# Altium schematic symbol library Power Reg$.SchLib: 80 symbols
Pins are listed as number, name and electrical type; pins without a type are passive.

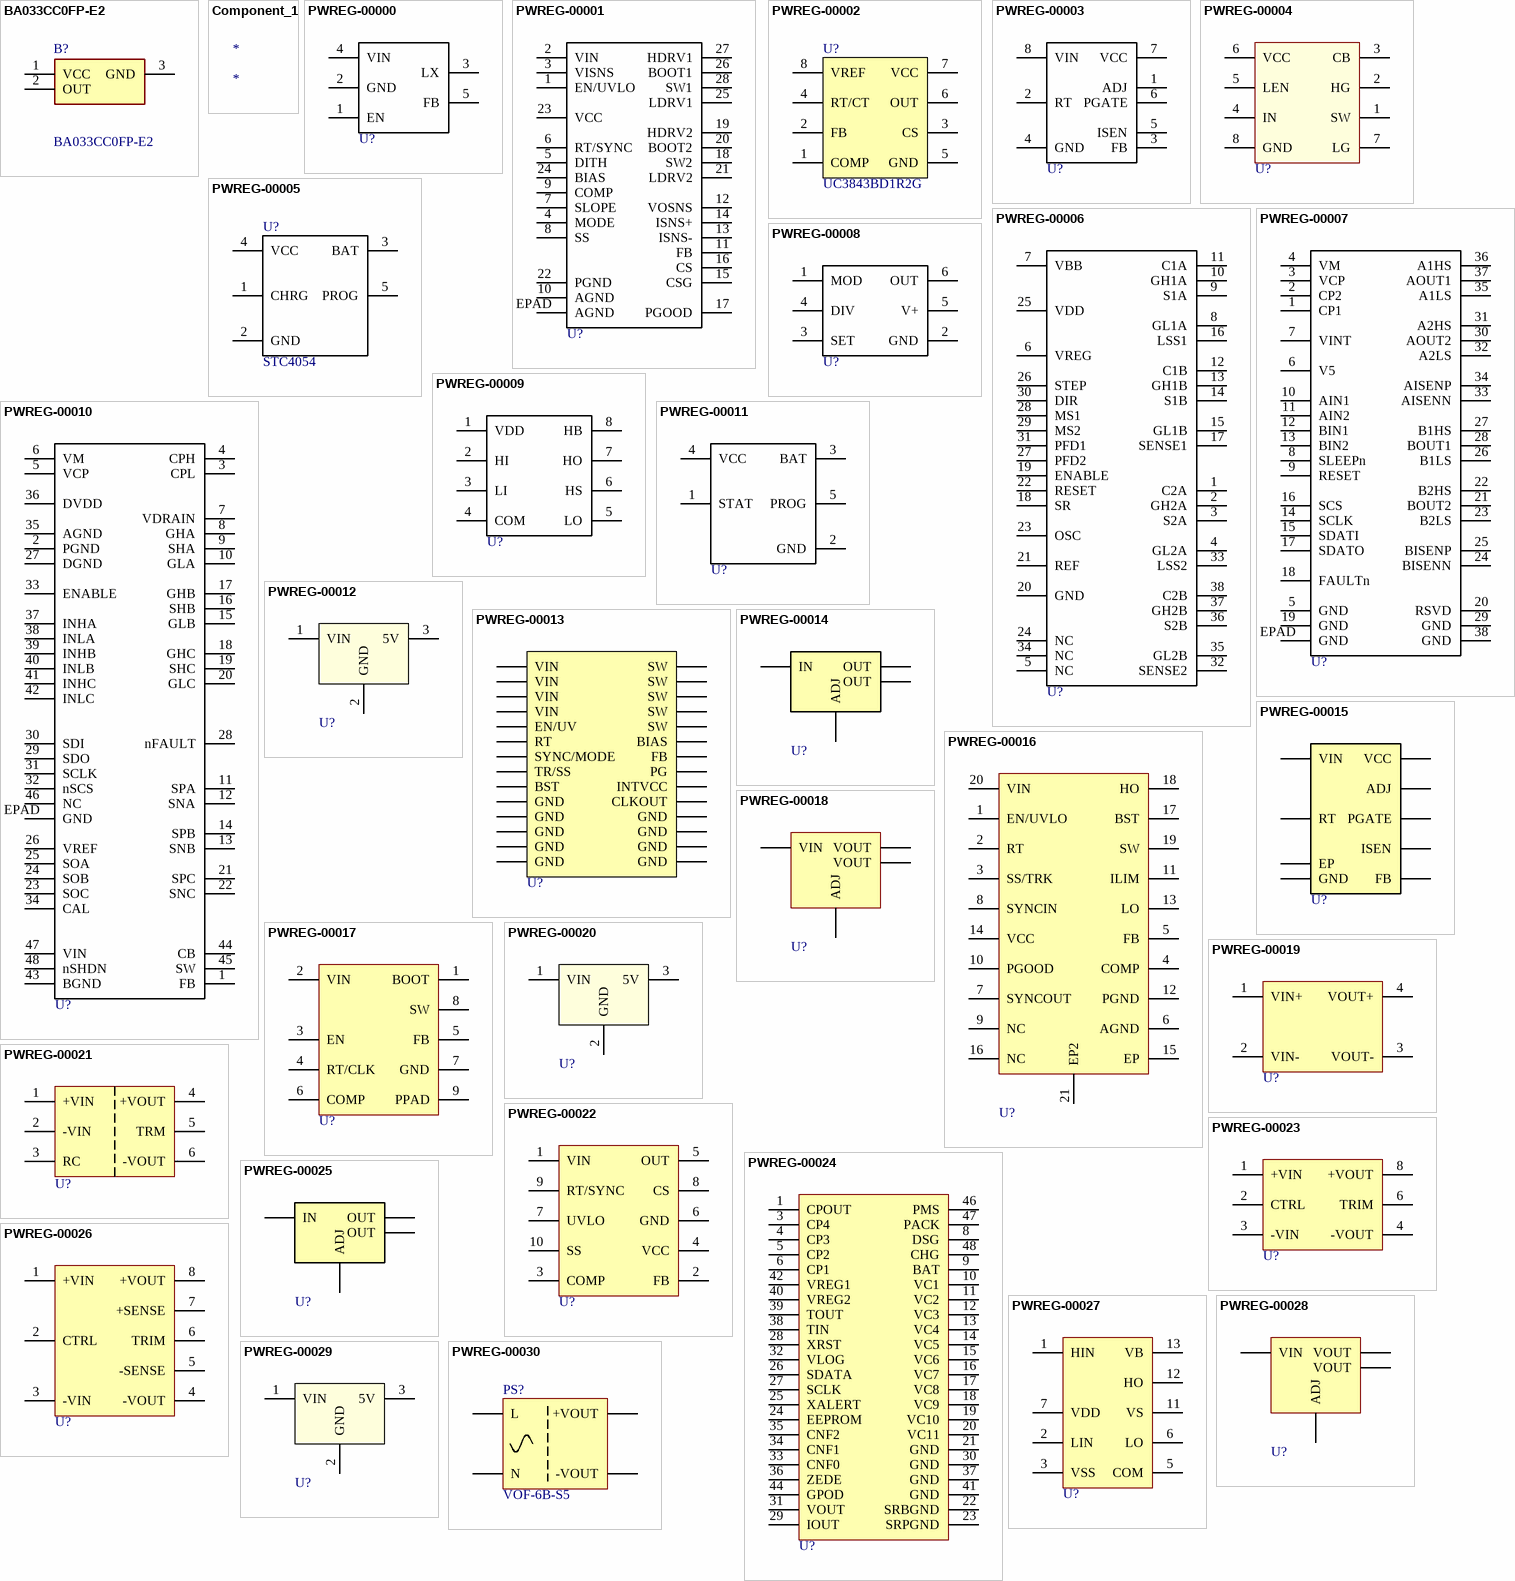
[diagram p0: symbols BA033CC0FP-E2 to PWREG-00030]

## BA033CC0FP-E2
designator B?
LDO regulator,3.3V,1A,TO252; Manufacturer_Name: ROHM Semiconductor; Manufacturer_Part_Number: BA033CC0FP-E2; Mouser Part Number: 755-BA033CC0FP-E2; Mouser Price/Stock: https://www.mouser.co.uk/ProductDetail/ROHM-Semiconductor/BA033CC0FP-E2?qs=4kLU8WoGk0vZtk7EcED04A%3D%3D; Arrow Part Number: BA033CC0FP-E2; Arrow Price/Stock: https://www.arrow.com/en/products/ba033cc0fp-e2/rohm-semiconductor?region=nac; Mouser Testing Part Number: *; Mouser Testing Price/Stock: *; Datasheet Link: http://rohmfs.rohm.com/en/products/databook/datasheet/ic/power/linear_regulator/baxxdd0-e.pdf
footprint ROHM_TO-252-3
pins: 1 VCC, 2 OUT, 3 GND

## Component_1
designator *

## PWREG-00000
designator U?, comment AP3428DN  (value not drawn)
REG, SW Buck Adj, 1A, 1.5MHz; Part Number: PWREG-00000; Manufacturer: Diodes Inc.; Manufacturer PN: AP3428; Voltage Range In: 2.5 - 5.5V; Voltage Range Out: 0.6 - 5.5V; Reg Type: SW Buck; Max Current: 1A; Frequency: 1.5MHz; Fixed/Adj: Adj
footprint sot-25
pins: 1 EN, 2 GND, 3 LX, 4 VIN, 5 FB

## PWREG-00001
designator U?, comment LM5175  (value not drawn)
REG CNTRL, SW Bck/Bst Adj,  LM5175; Part Number: PWREG-00001; Manufacturer: TI; Voltage Range In: 3.5 - 42V; Voltage Range Out: 0.8 - 55V; Frequency: 100-600kHz; Reg Type: SW Buck/Boost Controller; Fixed/Adj: Adj; Manufacturer PN: LM5175
footprint tssop-28_0
pins: 1 EN/UVLO, 2 VIN, 3 VISNS, 4 MODE, 5 DITH, 6 RT/SYNC, 7 SLOPE, 8 SS, 9 COMP, 10 AGND, 11 FB, 12 VOSNS, 13 ISNS-, 14 ISNS+, 15 CSG, 16 CS, 17 PGOOD, 18 SW2, 19 HDRV2, 20 BOOT2, 21 LDRV2, 22 PGND, 23 VCC, 24 BIAS, 25 LDRV1, 26 BOOT1, 27 HDRV1, 28 SW1, EPAD AGND

## PWREG-00002
designator U?, comment UC3843BD1R2G
REG, SW Flyback Adj, UC3843B; Part Number: PWREG-00002; Manufacturer: ON Semi; Voltage Range In: 30V; Reg Type: SW Flyback; Fixed/Adj: Adj; Manufacturer PN: UC3843BD1R2G
footprint so-8
pins: 1 COMP, 2 FB, 3 CS, 4 RT/CT, 5 GND, 6 OUT, 7 VCC, 8 VREF

## PWREG-00003
designator U?, comment LM25085  (value not drawn)
REG CNTRL, SW Buck Adj,  LM25085; Part Number: PWREG-00003; Manufacturer: TI; Manufacturer PN: LM25085MY; Voltage Range In: 4.5 - 42V; Frequency: Up to1MHz; Reg Type: SW Buck; Fixed/Adj: Adj
footprint MSPOP-8-PAD_0
pins: 1 ADJ, 2 RT, 3 FB, 4 GND, 5 ISEN, 6 PGATE, 7 VCC, 8 VIN

## PWREG-00004
designator U?, comment LM27222  (value not drawn)
Gate Driver, 5A, Half-Bridge, 4-6.85V, LM27222; Part Number: PWREG-00004; Manufacturer: TI; Voltage Range In: 4 - 6.85V; Max Current: 5A; Reg Type: Gate Driver; Manufacturer PN: LM27222
footprint so-8
pins: 1 SW, 2 HG, 3 CB, 4 IN, 5 LEN, 6 VCC, 7 LG, 8 GND

## PWREG-00005
designator U?, comment STC4054
Batt Charger, Li-Ion 800mA, TSOT23-5L, STC4054; Part Number: PWREG-00005; Manufacturer: ST; Voltage Range In: 4.25 - 6.5V; Voltage Range Out: 4.2V; Max Current: 0.8A; Reg Type: Batt Chgr; Fixed/Adj: Fixed; Manufacturer PN: STC4054
footprint sot-23-5
pins: 1 CHRG, 2 GND, 3 BAT, 4 VCC, 5 PROG

## PWREG-00006
designator U?, comment A4989  (value not drawn)
Stepper Driver, A4989; Part Number: PWREG-00006; Manufacturer: Allegro; Voltage Range In: 12 - 40V; Reg Type: Stepper Driver; Manufacturer PN: A4989
footprint tssop-38_0
pins: 1 C2A, 2 GH2A, 3 S2A, 4 GL2A, 5 NC, 6 VREG, 7 VBB, 8 GL1A, 9 S1A, 10 GH1A, 11 C1A, 12 C1B, 13 GH1B, 14 S1B, 15 GL1B, 16 LSS1, 17 SENSE1, 18 SR, 19 ENABLE, 20 GND, 21 REF, 22 RESET, 23 OSC, 24 NC, 25 VDD, 26 STEP, 27 PFD2, 28 MS1, 29 MS2, 30 DIR, 31 PFD1, 32 SENSE2, 33 LSS2, 34 NC, 35 GL2B, 36 S2B, 37 GH2B, 38 C2B

## PWREG-00007
designator U?, comment DRV8704  (value not drawn)
Dual BDC Driver, DRV8704; Part Number: PWREG-00007; Manufacturer: TI; Voltage Range In: 8 - 52V; Max Current: 200 mA; Reg Type: BDC Driver; Manufacturer PN: DRV8704
footprint tssop-38_1
pins: 1 CP1, 2 CP2, 3 VCP, 4 VM, 5 GND, 6 V5, 7 VINT, 8 SLEEPn, 9 RESET, 10 AIN1, 11 AIN2, 12 BIN1, 13 BIN2, 14 SCLK, 15 SDATI, 16 SCS, 17 SDATO, 18 FAULTn, 19 GND, 20 RSVD, 21 BOUT2, 22 B2HS, 23 B2LS, 24 BISENN, 25 BISENP, 26 B1LS, 27 B1HS, 28 BOUT1, 29 GND, 30 AOUT2, 31 A2HS, 32 A2LS, 33 AISENN, 34 AISENP, 35 A1LS, 36 A1HS, 37 AOUT1, 38 GND, EPAD GND

## PWREG-00008
designator U?, comment LTC6992  (value not drawn)
PWM Mod, Analog, LTC6992; Part Number: PWREG-00008; Manufacturer: Linear; Manufacturer PN: LTC6992
footprint sot-23-6
pins: 1 MOD, 2 GND, 3 SET, 4 DIV, 5 V+, 6 OUT

## PWREG-00009
designator U?, comment UCC27710  (value not drawn)
Half Bridge Driver, 0.5A, 620V, UCC27710, SO-8; Part Number: PWREG-00009; Manufacturer: TI; Voltage Range In: 10-22V; Max Current: 500mA; Reg Type: Gate Driver; Manufacturer PN: UCC27710
footprint so-8
pins: 1 VDD, 2 HI, 3 LI, 4 COM, 5 LO, 6 HS, 7 HO, 8 HB

## PWREG-00010
designator U?, comment DRV8323RS  (value not drawn)
BLDC Gate Driver, DRV 8323RS; Part Number: PWREG-00010; Manufacturer: TI; Voltage Range In: 6 - 60V; Max Current: 1A; Reg Type: BLDC Driver; Manufacturer PN: DRV8323RS
footprint VQFN-48
pins: 1 FB, 2 PGND, 3 CPL, 4 CPH, 5 VCP, 6 VM, 7 VDRAIN, 8 GHA, 9 SHA, 10 GLA, 11 SPA, 12 SNA, 13 SNB, 14 SPB, 15 GLB, 16 SHB, 17 GHB, 18 GHC, 19 SHC, 20 GLC, 21 SPC, 22 SNC, 23 SOC, 24 SOB, 25 SOA, 26 VREF, 27 DGND, 28 nFAULT, 29 SDO, 30 SDI, 31 SCLK, 32 nSCS, 33 ENABLE, 34 CAL, 35 AGND, 36 DVDD, 37 INHA, 38 INLA, 39 INHB, 40 INLB, 41 INHC, 42 INLC, 43 BGND, 44 CB, 45 SW, 46 NC, 47 VIN, 48 nSHDN, EPAD GND

## PWREG-00011
designator U?, comment MCP73831  (value not drawn)
Single Cell Li-Ion Batt Charger, MCP73831, SOT-23-5; Part Number: PWREG-00011; Manufacturer: Microchip; Voltage Range In: 3.75 - 6V; Max Current: 500mA; Reg Type: Batt Chgr; Manufacturer PN: MCP73831
footprint sot-23-5
pins: 1 STAT, 2 GND, 3 BAT, 4 VCC, 5 PROG

## PWREG-00012
designator U?, comment LM340  (value not drawn)
REG, Linear, Fixed 5V, 1.5A; Part Number: PWREG-00012; Manufacturer: TI; Manufacturer PN: LM340MP-5.0/NOPBCT-ND; Voltage Range In: 7 - 35V; Voltage Range Out: 5V; Max Current: 1.5A; Reg Type: Linear; Fixed/Adj: Fixed
footprint sot-223-4
pins: 1 VIN, 2 GND, 3 5V

## PWREG-00013
designator U?, comment LT8640S  (value not drawn)
SW Reg, Silent Switcher 2, Low EMI; Part Number: PWREG-00013; Manufacturer: Analog Devices; Manufacturer PN: LT8640SEV#PBF; Voltage Range In: 3 - 42V; Voltage Range Out: 0.97 - 42V; Max Current: 6A; Frequency: 200kHz-3MHz; Reg Type: SW Buck; Fixed/Adj: Adj; Cost: 11.15
footprint LQFN-24_0
pins: 1 BIAS, 2 INTVCC, 3 GND, 3 GND, 4 GND, 5 VIN, 6 VIN, 7 BST, 8 SW, 9 SW, 10 SW, 11 SW, 12 SW, 13 VIN, 14 VIN, 15 GND, 16 GND, 17 EN/UV, 18 RT, 19 CLKOUT, 20 SYNC/MODE, 21 TR/SS, 23 PG, 24 FB, 25 GND, 26 GND, 27 GND, 28 GND

## PWREG-00014
designator U?, comment LM317  (value not drawn)
REG, Linear, Adj, 1.5A; Part Number: PWREG-00014; Manufacturer: TI; Manufacturer PN: LM317KTTR; Voltage Range In: 4.25 - 40V; Voltage Range Out: 1.25 - 37V; Fixed/Adj: Adf; Max Current: 1.5A; Reg Type: Linear; Cost: 0.84
footprint D2PAK-4_0
pins: 1 ADJ, 2 OUT, 3 IN, 4 OUT

## PWREG-00015
designator U?, comment LM5085  (value not drawn)
REG CNTRL, SW Buck, LM5085; Part Number: PWREG-00015; Manufacturer: TI; Manufacturer PN: LM5085MY/NOPB; Voltage Range In: 4.5 - 75V; Reg Type: SW Buck; Fixed/Adj: Adj; Cost: 2.27
footprint MSPOP-8-PAD_0
pins: 1 ADJ, 2 RT, 3 FB, 4 GND, 5 ISEN, 6 PGATE, 7 VCC, 8 VIN, 9 EP

## PWREG-00016
designator U?, comment LM5145  (value not drawn)
REG CNTRL, SW Buck, LM5145; Part Number: PWREG-00016; Manufacturer: TI; Manufacturer PN: LM5145RGY; Voltage Range In: 6 - 75V; Voltage Range Out: 0.8 - 60V; Frequency: 100kHz-1MHz; Reg Type: SW Buck; Fixed/Adj: Adj; Cost: 6.35
footprint VQFN-20_0
pins: 1 EN/UVLO, 2 RT, 3 SS/TRK, 4 COMP, 5 FB, 6 AGND, 7 SYNCOUT, 8 SYNCIN, 9 NC, 10 PGOOD, 11 ILIM, 12 PGND, 13 LO, 14 VCC, 15 EP, 16 NC, 17 BST, 18 HO, 19 SW, 20 VIN, 21 EP2

## PWREG-00017
designator U?, comment TPS54360  (value not drawn)
REG, SW Buck Adj, 3.5A, 4.5-60V, 2.5MHz; Part Number: PWREG-00017; Manufacturer: TI; Manufacturer PN: TPS54360DDAR; Voltage Range Out: 0.8 - 58.8V; Max Current: 4.5A; Frequency: 100kHz-2.5MHz; Reg Type: SW Buck; Voltage Range In: 4.5 - 60V; Fixed/Adj: Adj; Cost: 5.11
footprint SO-8_PPAD
pins: 1 BOOT, 2 VIN, 3 EN, 4 RT/CLK, 5 FB, 6 COMP, 7 GND, 8 SW, 9 PPAD

## PWREG-00018
designator U?, comment LM1117  (value not drawn)
REG, Linear, Fixed 3V3, 800mA, SOT-223; Part Number: PWREG-00018; Manufacturer: TI; Manufacturer PN: LM1117MPX-3.3/NOPB; Voltage Range In: 4.5 - 15V; Voltage Range Out: 3.3V; Max Current: 800mA; Reg Type: Linear; Fixed/Adj: Fixed; Cost: 1.14
footprint sot-223-4
pins: 1 ADJ, 2 VOUT, 3 VIN, 4 VOUT

## PWREG-00019
designator U?, comment POWER_MODULE  (value not drawn)
Module, Isolated, 15V, 200mA; Part Number: PWREG-00019; Manufacturer: MEAN WELL; Manufacturer PN: SPU03M-15; Voltage Range In: 10.8 - 13.2V; Fixed/Adj: Fixed; Voltage Range Out: 15V; Max Current: 200mA; Cost: 6.85
footprint SPU03
pins: 1 VIN+, 2 VIN-, 3 VOUT-, 4 VOUT+

## PWREG-00020
designator U?, comment LM340  (value not drawn)
REG, Linear, Fixed 5V, TO-220; Part Number: PWREG-00020; Manufacturer: TI; Manufacturer PN: LM340AT-5.0; Voltage Range In: 7 - 35V; Max Current: 1.5A; Voltage Range Out: 5V; Reg Type: Linear; Fixed/Adj: Fixed
footprint TO-220_0
pins: 1 VIN, 2 GND, 3 5V

## PWREG-00021
designator U?, comment CCG15  (value not drawn)
Module, Isolated, 5V, 3A; Part Number: PWREG-00021; Manufacturer: TDK-Lambda; Manufacturer PN: CCG152405S; Voltage Range In: 9 - 36V; Fixed/Adj: Fixed; Voltage Range Out: 5V; Max Current: 3A; Weight: 20
footprint CCG15
pins: 1 +VIN, 2 -VIN, 3 RC, 4 +VOUT (power), 5 TRM, 6 -VOUT (power)

## PWREG-00022
designator U?, comment LM5022  (value not drawn)
REG, SW Boost Adj, 1A, 6-60V, 2.2MHz; Part Number: PWREG-00022; Manufacturer: TI; Manufacturer PN: LM5022MM/NOPB; Frequency: up to 2.2MHz; Voltage Range In: 6 - 60V; Max Current: 1A; Reg Type: SW Boost; Fixed/Adj: Adj; Cost: 2.65
footprint VSSOP-10_0
pins: 1 VIN, 2 FB, 3 COMP, 4 VCC, 5 OUT, 6 GND, 7 UVLO, 8 CS, 9 RT/SYNC, 10 SS

## PWREG-00023
designator U?, comment eighth_brick_module_6  (value not drawn)
Module, Isolated, Eighth-Brick, 12V, 10A, Negative Logic; Part Number: PWREG-00023; Manufacturer: Murata; Manufacturer PN: UWE-12/10-Q48NB-C; Voltage Range In: 18 - 75V; Reg Type: Isolated Module; Fixed/Adj: Fixed; Voltage Range Out: 12V; Max Current: 10A; Cost: 46; Weight: 20
footprint EIGHTH_BRICK_6_0
pins: 1 +VIN, 2 CTRL, 3 -VIN, 4 -VOUT, 6 TRIM, 8 +VOUT

## PWREG-00024
designator U?, comment BQ77PL900  (value not drawn)
Batt Manager, Li-Ion, 5-10 cells, bq77PL900; Part Number: PWREG-00024; Manufacturer: TI; Manufacturer PN: BQ77PL900DLR; Voltage Range In: -0.3 - 60V; Reg Type: Batt Mngr; Fixed/Adj: Fixed; Cost: 6.36
footprint SSOP-48_0
pins: 1 CPOUT, 2 NC hidden, 3 CP4, 4 CP3, 5 CP2, 6 CP1, 7 NC hidden, 8 DSG, 9 BAT, 10 VC1, 11 VC2, 12 VC3, 13 VC4, 14 VC5, 15 VC6, 16 VC7, 17 VC8, 18 VC9, 19 VC10, 20 VC11, 21 GND, 22 SRBGND, 23 SRPGND, 24 EEPROM, 25 XALERT, 26 SDATA, 27 SCLK, 28 XRST, 29 IOUT, 30 GND, 31 VOUT, 32 VLOG, 33 CNF0, 34 CNF1, 35 CNF2, 36 ZEDE, 37 GND, 38 TIN, 39 TOUT, 40 VREG2, 41 GND, 42 VREG1, 43 NC hidden, 44 GPOD, 45 NC hidden, 46 PMS, 47 PACK, 48 CHG

## PWREG-00025
designator U?, comment LM317  (value not drawn)
REG, Linear, Adj, 500mA, SOT-223; Part Number: PWREG-00025; Manufacturer: ON Semi; Manufacturer PN: LM317MSTT3G; Voltage Range In: 40V; Voltage Range Out: 1.2-37V; Max Current: 500mA; Reg Type: Linear; Fixed/Adj: Adj; Cost: 0.59
footprint sot-223-4
pins: 1 ADJ, 2 OUT, 3 IN, 4 OUT

## PWREG-00026
designator U?, comment eighth_brick_module_8  (value not drawn)
Module, Isolated, Eighth-Brick, 12V, 10A, Positive Logic; Part Number: PWREG-00026; Manufacturer: Murata; Manufacturer PN: UWE-12/10-Q48PB-C; Voltage Range In: 18 - 75V; Reg Type: Isolated Module; Fixed/Adj: Fixed; Voltage Range Out: 12V; Max Current: 10A; Cost: 47; Weight: 20
footprint EIGHTH_BRICK_8_0
pins: 1 +VIN, 2 CTRL, 3 -VIN, 4 -VOUT, 5 -SENSE, 6 TRIM, 7 +SENSE, 8 +VOUT

## PWREG-00027
designator U?, comment FAN7391  (value not drawn)
Half Bridge Driver, 4.5A, 600V, FAN7391, SO-14; Part Number: PWREG-00027; Manufacturer: ON Semi; Manufacturer PN: FAN7391MXCT-ND; Voltage Range In: 10 - 20V; Reg Type: Gate Driver; Max Current: 4.5A; Cost: 1.98
footprint so-14
pins: 1 HIN, 2 LIN, 3 VSS, 4 NC hidden, 5 COM, 6 LO, 7 VDD, 8 NC hidden, 9 NC hidden, 10 NC hidden, 11 VS, 12 HO, 13 VB, 14 NC hidden

## PWREG-00028
designator U?, comment LM1117  (value not drawn)
REG, Linear, Fixed 5V, 800mA, SOT-223, LM1117-5.0; Part Number: PWREG-00028; Manufacturer: TI; Manufacturer PN: LM1117MPX-5.0/NOPB; Voltage Range In: 6.2 - 20V; Voltage Range Out: 5V; Max Current: 800mA; Reg Type: Linear; Fixed/Adj: Fixed; Cost: 1.14
footprint sot-223-4
pins: 1 ADJ, 2 VOUT, 3 VIN, 4 VOUT

## PWREG-00029
designator U?, comment LM340  (value not drawn)
REG, Linear, Fixed 5V, 1A, TO-220; Part Number: PWREG-00029; Manufacturer: TI; Manufacturer PN: LM7805CT/NOPB; Voltage Range In: 7 - 35V; Voltage Range Out: 5V; Max Current: 1A; Reg Type: Linear; Fixed/Adj: Fixed; Cost: 1.54
footprint TO-220_0
pins: 1 VIN, 2 GND, 3 5V

## PWREG-00030
designator PS?, comment VOF-6B-S5
REG, SW AC/DC Converter Module, Fixed 5V, 1.2A; Part Number: PWREG-00030; Manufacturer: CUI; Voltage Range In: 85 - 264VAC; Frequency: 70kHz; Reg Type: Isolated Module; Voltage Range Out: 5V; Max Current: 1.2A; Fixed/Adj: Fixed; Manufacturer PN: VOF-6B-S5; Cost: 8.8
footprint VOF-6B
pins: 1 N, 2 L, 3 +VOUT, 4 -VOUT

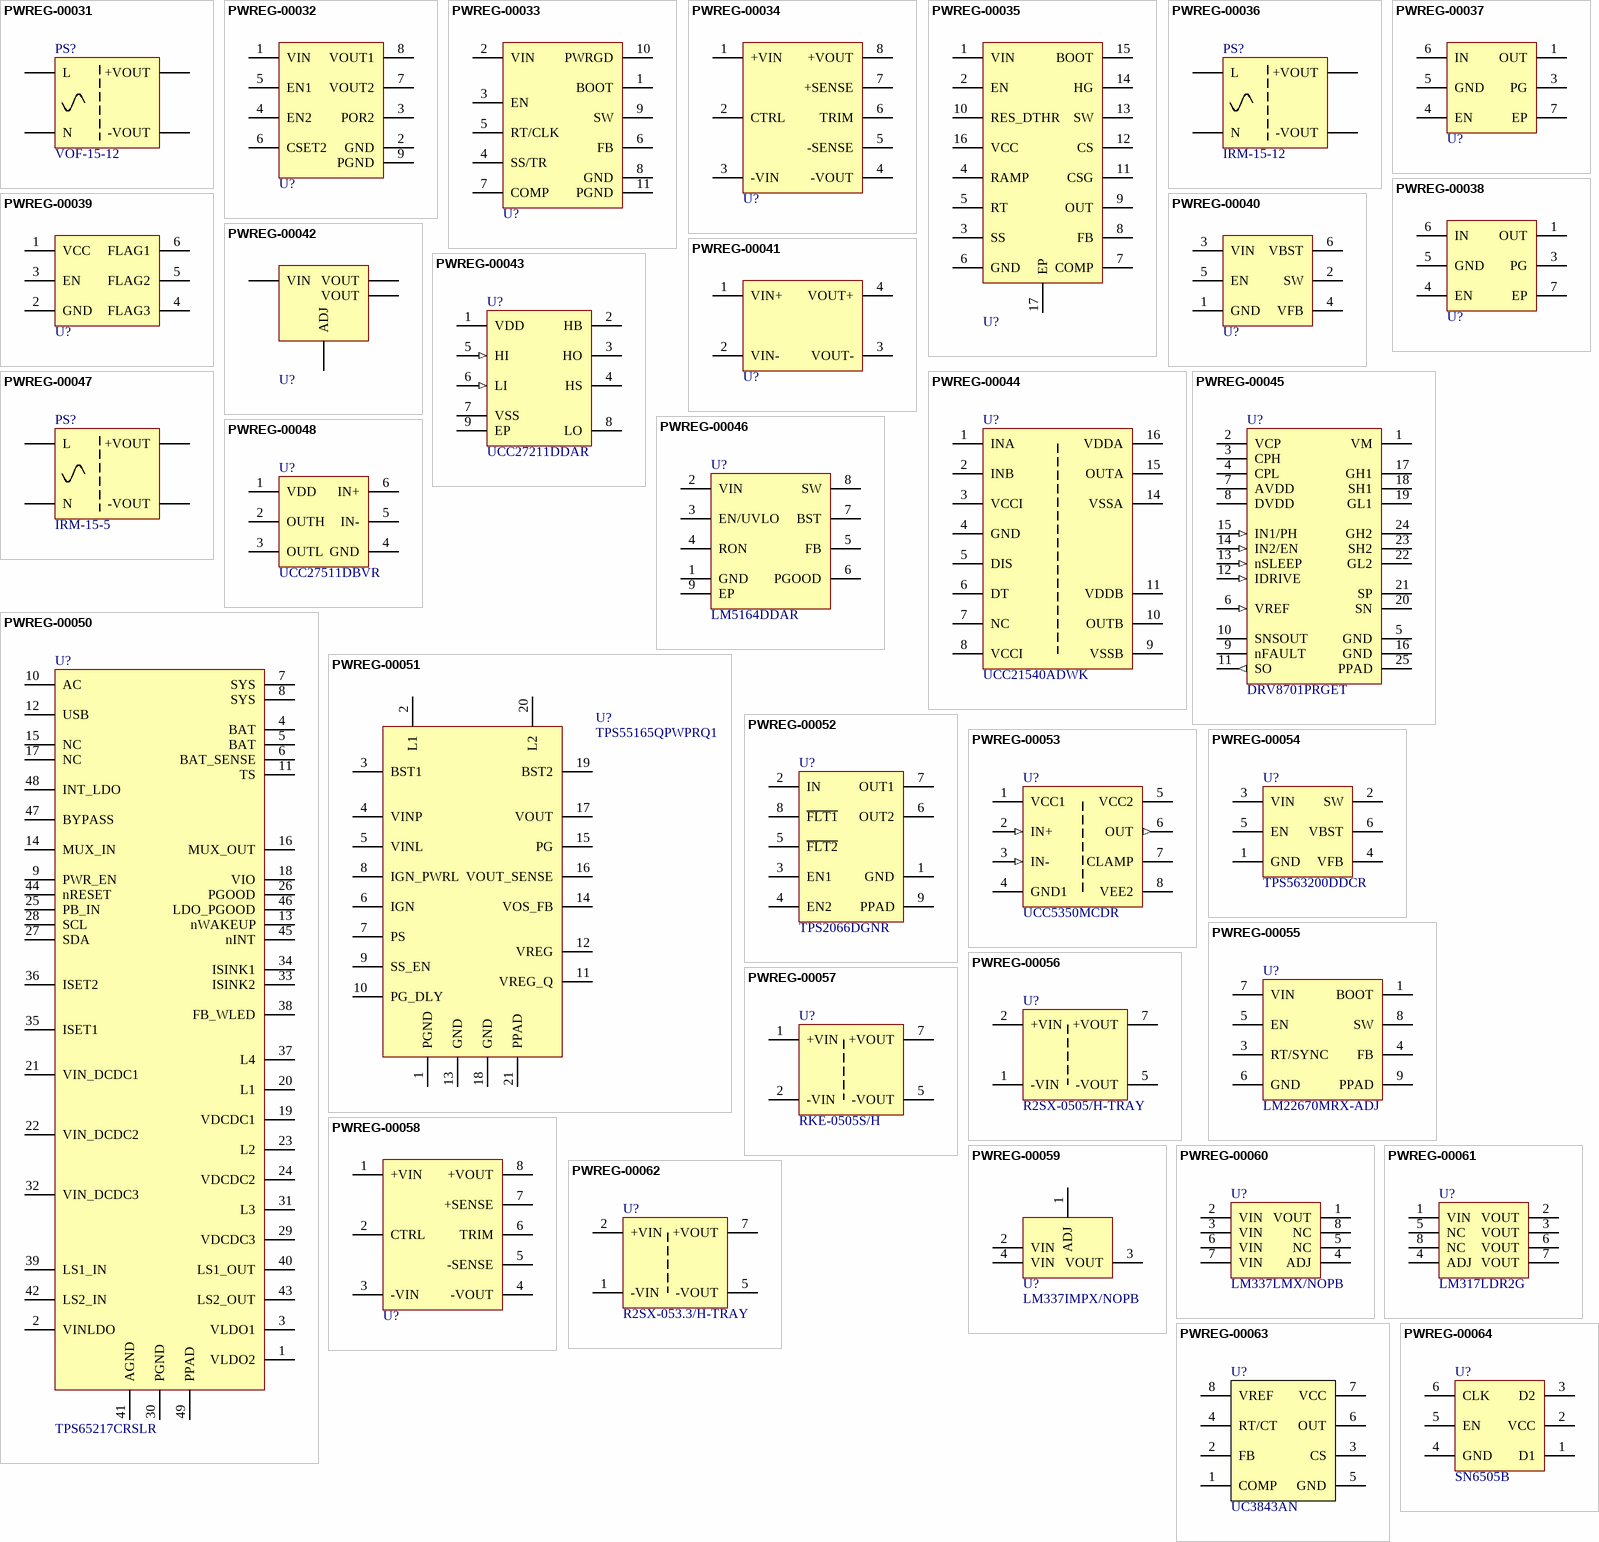
[diagram p1: symbols PWREG-00031 to PWREG-00064]

## PWREG-00031
designator PS?, comment VOF-15-12
REG, SW AC/DC Converter Module, Fixed 12V, 1.25A; Part Number: PWREG-00031; Manufacturer: CUI; Voltage Range In: 86 - 264VAC; Reg Type: Isolated Module; Voltage Range Out: 12V; Max Current: 1.25A; Fixed/Adj: Fixed; Manufacturer PN: VOF-15-12; Cost: 19.41
footprint VOF-15-12
pins: 1 N, 2 L, 3 +VOUT, 4 -VOUT

## PWREG-00032
designator U?, comment MIC5332  (value not drawn)
REG, Linear, Dual 3.3V, 300mA; Part Number: PWREG-00032; Manufacturer: Microchip; Manufacturer PN: MIC5332-SSYMT; Voltage Range In: 2.3V-6V; Fixed/Adj: Fixed; Voltage Range Out: 3.3V; Max Current: 300mA; Reg Type: Linear; Cost: 0.95
footprint UFDFN-8
pins: 1 VIN, 2 GND, 3 POR2, 4 EN2, 5 EN1, 6 CSET2, 7 VOUT2, 8 VOUT1, 9 PGND

## PWREG-00033
designator U?, comment TPS54561  (value not drawn)
REG, SW Buck Adj, 5A, 4.5-60V, 2.5MHz, TPS54561; Part Number: PWREG-00033; Manufacturer: TI; Manufacturer PN: TPS54561DPRR; Voltage Range Out: 0.8-58.8V; Frequency: 100kHz-2.5MHz; Reg Type: SW Buck; Voltage Range In: 4.5-60V; Max Current: 5A; Fixed/Adj: Adj; Cost: 5.52
footprint WSON-10_0
pins: 1 BOOT, 2 VIN, 3 EN, 4 SS/TR, 5 RT/CLK, 6 FB, 7 COMP, 8 GND, 9 SW, 10 PWRGD, 11 PGND

## PWREG-00034
designator U?, comment power_brick_module_8  (value not drawn)
Module, Isolated DC-DC Conv, Quarter-Brick, 12V, 225W; Part Number: PWREG-00034; Manufacturer: ABB; Manufacturer PN: QHHD019A0B41Z; Voltage Range In: 18-75V; Max Current: 19A; Reg Type: Isolated Module; Fixed/Adj: Fixed; Voltage Range Out: 12V; Cost: 51.11
footprint QUARTER_BRICK_8_0
pins: 1 +VIN, 2 CTRL, 3 -VIN, 4 -VOUT, 5 -SENSE, 6 TRIM, 7 +SENSE, 8 +VOUT

## PWREG-00035
designator U?, comment LM5088  (value not drawn)
REG CNTRL, SW Buck, LM5088; Part Number: PWREG-00035; Manufacturer: TI; Manufacturer PN: LM5088MHX-2; Voltage Range In: 4.5-75V; Frequency: 50kHz-1MHz; Reg Type: SW Buck; Fixed/Adj: Adj; Cost: 3.53
footprint HTSSOP-16_0
pins: 1 VIN, 2 EN, 3 SS, 4 RAMP, 5 RT, 6 GND, 7 COMP, 8 FB, 9 OUT, 10 RES_DTHR, 11 CSG, 12 CS, 13 SW, 14 HG, 15 BOOT, 16 VCC, 17 EP

## PWREG-00036
designator PS?, comment IRM-15-12
Module, AC-DC Isolated, 12V 1.25A; Part Number: PWREG-00036; Manufacturer: MEAN WELL; Voltage Range In: 85~305VAC; Reg Type: Isolated Module; Fixed/Adj: Fixed; Voltage Range Out: 12V; Max Current: 1.25A; Manufacturer PN: IRM-15-12; Cost: 10.85
footprint MEANWELL_IRM-15
pins: 1 N, 2 L, 3 +VOUT, 4 -VOUT

## PWREG-00037
designator U?, comment LP5912  (value not drawn)
REG, Linear, Fixed 3.3V, 500mA, Low-Noise with Enable Pin; Part Number: PWREG-00037; Manufacturer: TI; Manufacturer PN: LP5912-3.3DRVR; Voltage Range In: 3.5 - 6.5V; Voltage Range Out: 3.3V; Max Current: 500mA; Reg Type: Linear; Fixed/Adj: Fixed; Cost: 1.2
footprint WSON-6_0
pins: 1 OUT, 2 NC hidden, 3 PG, 4 EN, 5 GND, 6 IN, 7 EP

## PWREG-00038
designator U?, comment LP5912  (value not drawn)
REG, Linear, Fixed 1.8V, 500mA, Low-Noise with Enable Pin; Part Number: PWREG-00038; Manufacturer: TI; Manufacturer PN: LP5912-1.8DRVR; Voltage Range In: 2.0 - 6.5V; Voltage Range Out: 1.8V; Max Current: 500mA; Reg Type: Linear; Fixed/Adj: Fixed; Cost: 1.2
footprint WSON-6_0
pins: 1 OUT, 2 NC hidden, 3 PG, 4 EN, 5 GND, 6 IN, 7 EP

## PWREG-00039
designator U?, comment LM3880  (value not drawn)
IC, Three-Rail Power Supply Sequencer, LM3880; Part Number: PWREG-00039; Manufacturer: TI; Manufacturer PN: LM3880MF-1AE/NOPB; Voltage Range In: 2.7 - 5.5V; Cost: 1.35
footprint sot-23-6
pins: 1 VCC, 2 GND, 3 EN, 4 FLAG3, 5 FLAG2, 6 FLAG1

## PWREG-00040
designator U?, comment TPS56220x  (value not drawn)
REG, Synchronous Buck, 2A, 4.5-17V Input, SOT-23-6, TPS562201; Part Number: PWREG-00040; Manufacturer: TI; Manufacturer PN: TPS562201DDCR; Voltage Range Out: 0.76 - 7V; Frequency: 580kHz; Reg Type: SW Buck; Fixed/Adj: Adj; Voltage Range In: 4.5 - 17V; Max Current: 2A; Cost: 0.68
footprint sot-23-6
pins: 1 GND, 2 SW, 3 VIN, 4 VFB, 5 EN, 6 VBST

## PWREG-00041
designator U?, comment POWER_MODULE  (value not drawn)
Module, Isoltaed DC-DC, 12V 250mA; Part Number: PWREG-00041; Manufacturer: MEAN WELL; Manufacturer PN: SPU03M-12; Voltage Range In: 10.8 - 13.2V; Reg Type: Isolated Module; Fixed/Adj: Fixed; Voltage Range Out: 12V; Max Current: 250mA; Cost: 6.91
footprint SPU03
pins: 1 VIN+, 2 VIN-, 3 VOUT-, 4 VOUT+

## PWREG-00042
designator U?, comment LM1117  (value not drawn)
REG, Linear, Fixed 1.8V, 800mA, LM1117-1.8, SOT-223; Part Number: PWREG-00042; Manufacturer: TI; Manufacturer PN: LM1117MPX-1.8/NOPB; Voltage Range In: 3 - 15V; Voltage Range Out: 1.8V; Max Current: 800mA; Reg Type: LInear; Fixed/Adj: Fixed; Cost: 1.14
footprint sot-223-4
pins: 1 ADJ, 2 VOUT, 3 VIN, 4 VOUT

## PWREG-00043
designator U?, comment UCC27211DDAR
Gate Driver, 4A, Half-Bridge, 7.2ns Rise, 120V DC Max Bootstrap; Part Number: PWREG-00043; Manufacturer: TI; Voltage Range In: 8 - 17V; Max Current: 4A; Reg Type: Gate Driver; Manufacturer PN: UCC27211DDAR; Cost: 3.6
footprint SO-8_PPAD
pins: 1 VDD (power), 2 HB, 3 HO, 4 HS, 5 HI (in), 6 LI (in), 7 VSS (power), 8 LO, 9 EP (power)

## PWREG-00044
designator U?, comment UCC21540ADWK
Gate Driver, Isolated, Dual-Channel, 4A/6A Source/Sink, 5ns Rise-Time; Part Number: PWREG-00044; Manufacturer: TI; Max Current: 6A; Reg Type: Gate Driver; Manufacturer PN: UCC21540ADWK; Cost: 6.37
footprint SOW-14-DWK
pins: 1 INA, 2 INB, 3 VCCI (power), 4 GND (power), 5 DIS, 6 DT, 7 NC, 8 VCCI (power), 9 VSSB (power), 10 OUTB (power), 11 VDDB (power), 14 VSSA (power), 15 OUTA (power), 16 VDDA (power)

## PWREG-00045
designator U?, comment DRV8701PRGET
Dual Half-Bridge Driver, PWM, 5.9-45V, DRV8701P; Part Number: PWREG-00045; Manufacturer: TI; Voltage Range In: 5.9 - 45V; Reg Type: Bridge Driver; Manufacturer PN: DRV8701PRGET; Cost: 2.37
footprint VQFN-24-EP
pins: 1 VM (power), 2 VCP, 3 CPH, 4 CPL, 5 GND (power), 6 VREF (in), 7 AVDD (power), 8 DVDD (power), 9 nFAULT (oc), 10 SNSOUT (oc), 11 SO (out), 12 IDRIVE (in), 13 nSLEEP (in), 14 IN2/EN (in), 15 IN1/PH (in), 16 GND (power), 17 GH1, 18 SH1, 19 GL1, 20 SN, 21 SP, 22 GL2, 23 SH2, 24 GH2, 25 PPAD (power)

## PWREG-00046
designator U?, comment LM5164DDAR
REG, Sychronous Buck Adj, 1A, 6-100V, LM5164; Part Number: PWREG-00046; Manufacturer: TI; Voltage Range Out: 1.2 - 100V; Reg Type: SW Buck; Voltage Range In: 6 - 100V; Max Current: 1A; Fixed/Adj: Adj; Manufacturer PN: LM5164DDAR; Cost: 3.57
footprint SO-8_PPAD
pins: 1 GND (power), 2 VIN (power), 3 EN/UVLO, 4 RON, 5 FB, 6 PGOOD, 7 BST, 8 SW, 9 EP (power)

## PWREG-00047
designator PS?, comment IRM-15-5
Module, AC-DC Isolated, 5V 3A, MEAN WELL; Part Number: PWREG-00047; Voltage Range In: 85~305VAC; Reg Type: Isolated Module; Fixed/Adj: Fixed; Voltage Range Out: 5V; Max Current: 3A; Manufacturer: MEAN WELL; Manufacturer PN: IRM-15-5; Cost: 10.22
footprint MEANWELL_IRM-15
pins: 1 N, 2 L, 3 +VOUT, 4 -VOUT

## PWREG-00048
designator U?, comment UCC27511DBVR
Gate Driver, Single Channel, High-Speed, Low-Side, 4A/8A src/sink; Part Number: PWREG-00048; Manufacturer: TI; Voltage Range In: 18V; Voltage Range Out: 18V; Max Current: 4A/8A; Reg Type: Gate Driver; Manufacturer PN: UCC27511DBVR; Cost: 1.16
footprint sot-23-6
pins: 1 VDD, 2 OUTH, 3 OUTL, 4 GND, 5 IN-, 6 IN+

## PWREG-00050
designator U?, comment TPS65217CRSLR
IC, Single-Chip PMIC for Sitara AM335x; Part Number: PWREG-00050; Manufacturer: TI; Manufacturer PN: TPS65217CRSLR; Cost: 5.4
footprint VQFN-48-TPS65217
pins: 1 VLDO2, 2 VINLDO, 3 VLDO1, 4 BAT, 5 BAT, 6 BAT_SENSE, 7 SYS, 8 SYS, 9 PWR_EN, 10 AC, 11 TS, 12 USB, 13 nWAKEUP, 14 MUX_IN, 15 NC, 16 MUX_OUT, 17 NC, 18 VIO, 19 VDCDC1, 20 L1, 21 VIN_DCDC1, 22 VIN_DCDC2, 23 L2, 24 VDCDC2, 25 PB_IN, 26 PGOOD, 27 SDA, 28 SCL, 29 VDCDC3, 30 PGND, 31 L3, 32 VIN_DCDC3, 33 ISINK2, 34 ISINK1, 35 ISET1, 36 ISET2, 37 L4, 38 FB_WLED, 39 LS1_IN, 40 LS1_OUT, 41 AGND, 42 LS2_IN, 43 LS2_OUT, 44 nRESET, 45 nINT, 46 LDO_PGOOD, 47 BYPASS, 48 INT_LDO, 49 PPAD

## PWREG-00051
designator U?, comment TPS55165QPWPRQ1
REG, 36V, 1A Output, Single Inductor, Synchronous Buck-Boost; Part Number: PWREG-00051; Manufacturer: TI; Voltage Range In: 2 - 36V; Voltage Range Out: 5V or 12V; Reg Type: SW Buck-Boost; Fixed/Adj: Fixed; Max Current: 1A; Manufacturer PN: TPS55165QPWPRQ1; Cost: 4.55
footprint HTSSOP-20_0
pins: 1 PGND, 2 L1, 3 BST1, 4 VINP, 5 VINL, 6 IGN, 7 PS, 8 IGN_PWRL, 9 SS_EN, 10 PG_DLY, 11 VREG_Q, 12 VREG, 13 GND, 14 VOS_FB, 15 PG, 16 VOUT_SENSE, 17 VOUT, 18 GND, 19 BST2, 20 L2, 21 PPAD

## PWREG-00052
designator U?, comment TPS2066DGNR
IC, Power Switch 1:2, 8-MSOP; Part Number: PWREG-00052; Manufacturer: TI; Voltage Range In: 2.7 ~ 5.5V; Max Current: 1A; Voltage Range Out: 2.7 ~ 5.5V; Reg Type: Power Switch; Manufacturer PN: TPS2066DGNR; Cost: 1.56; Distributor Link: https://www.digikey.com/en/products/detail/texas-instruments/TPS2066DGNR/684822
footprint VSSOP-8-PPAD
pins: 1 GND, 2 IN, 3 EN1, 4 EN2, 5 ~{FLT2}, 6 OUT2, 7 OUT1, 8 ~{FLT1}, 9 PPAD

## PWREG-00053
designator U?, comment UCC5350MCDR
Gate Driver, Isolated 3kV, 1-Ch, 5A/5A Src/Sink, SOIC-8; Part Number: PWREG-00053; Manufacturer: TI; Max Current: 5A; Reg Type: Gate Driver; Manufacturer PN: UCC5350MCDR; Cost: 1.92
footprint SO-8_1
pins: 1 VCC1 (power), 2 IN+ (in), 3 IN- (in), 4 GND1 (power), 5 VCC2 (power), 6 OUT (out), 7 CLAMP, 8 VEE2

## PWREG-00054
designator U?, comment TPS563200DDCR
REG, Synchronous Buck, 3A, 4.5-17V Input, SOT-23-6, TPS563200; Part Number: PWREG-00054; Manufacturer: TI; Voltage Range In: 4.5 ~ 17V; Voltage Range Out: 0.76 ~ 7V; Reg Type: SW Buck; Max Current: 3A; Manufacturer PN: TPS563200DDCR; Cost: 0.89
footprint sot-23-6
pins: 1 GND, 2 SW, 3 VIN, 4 VFB, 5 EN, 6 VBST

## PWREG-00055
designator U?, comment LM22670MRX-ADJ
REG, Buck, 3A, 4.5~42V Input, Simple Switcher, SOIC-8-EP; Part Number: PWREG-00055; Manufacturer: TI; Voltage Range In: 4.7 ~ 42V; Voltage Range Out: 1.285 ~ 37V; Reg Type: SW Buck; Fixed/Adj: Adj; Max Current: 3A; Manufacturer PN: LM22670MRX-ADJ; Cost: 4.31
footprint SO-8_PPAD
pins: 1 BOOT, 2 NC hidden, 3 RT/SYNC, 4 FB, 5 EN, 6 GND, 7 VIN, 8 SW, 9 PPAD

## PWREG-00056
designator U?, comment R2SX-0505/H-TRAY
Module, DC-DC Isolated, 5V 2W 3kV, Recom Econoline; Part Number: PWREG-00056; Voltage Range In: 4.5 ~ 5.5V; Max Current: 400mA; Reg Type: Isolated Module; Fixed/Adj: Fixed; Voltage Range Out: 5V; Manufacturer: Recom; Manufacturer PN: R2SX-0505/H-TRAY; Cost: 5.71
footprint RECOM_R2SX
pins: 1 -VIN, 2 +VIN, 4 NC hidden, 5 -VOUT, 7 +VOUT, 10 NC hidden

## PWREG-00057
designator U?, comment RKE-0505S/H
Module, DC-DC Isolated, 5V 1W 4kV, Recom Econoline; Part Number: PWREG-00057; Voltage Range In: 4.5 ~ 5.5V; Max Current: 200mA; Reg Type: Isolated Module; Fixed/Adj: Fixed; Voltage Range Out: 5V; Manufacturer: Recom; Manufacturer PN: RKE-0505S/H; Cost: 3.41
footprint RECOM_RKE/H
pins: 1 +VIN, 2 -VIN, 4 NC hidden, 5 -VOUT, 7 +VOUT, 10 NC hidden

## PWREG-00058
designator U?, comment UWS-12/4.5-Q48N-C  (value not drawn)
Module, Isolated, 1/16 Brick, 12V 4.5A (54W) Negative Logic; Part Number: PWREG-00058; Manufacturer: Murata; Voltage Range In: 18 ~ 75V; Reg Type: Isolated Module; Fixed/Adj: Fixed; Voltage Range Out: 12V; Max Current: 4.5A; Manufacturer PN: UWS-12/4.5-Q48N-C; Cost: 32
footprint MURATA_UWS
pins: 1 +VIN, 2 CTRL, 3 -VIN, 4 -VOUT, 5 -SENSE, 6 TRIM, 7 +SENSE, 8 +VOUT

## PWREG-00059
designator U?, comment LM337IMPX/NOPB
REG, Linear, Negative Adj 1A SOT-223-4; Part Number: PWREG-00059; Manufacturer: TI; Voltage Range In: -4.2 ~ -40V; Voltage Range Out: -1.2 ~ -37V; Max Current: 1A; Reg Type: Linear; Fixed/Adj: Adj; Manufacturer PN: LM337IMPX/NOPB; Cost: 1.58
footprint SOT-223-4_1
pins: 1 ADJ, 2 VIN, 3 VOUT, 4 VIN

## PWREG-00060
designator U?, comment LM337LMX/NOPB
REG, Linear, Negative Adj 100mA SOIC-8; Part Number: PWREG-00060; Manufacturer: ON Semi; Voltage Range In: -4.2 ~ -40V; Voltage Range Out: -1.2 ~ -37V; Max Current: 100mA; Reg Type: Linear; Fixed/Adj: Adj; Manufacturer PN: LM337LMX/NOPB; Cost: 0.79
footprint SO-8_1
pins: 1 VOUT, 2 VIN, 3 VIN, 4 ADJ, 5 NC, 6 VIN, 7 VIN, 8 NC

## PWREG-00061
designator U?, comment LM317LDR2G
REG, Linear, Positive Adj 100mA SOIC-8; Part Number: PWREG-00061; Manufacturer: ON Semi; Voltage Range In: 4.2 ~ 40V; Voltage Range Out: 1.2 ~ 37V; Max Current: 100mA; Reg Type: Linear; Fixed/Adj: Adj; Manufacturer PN: LM317LDR2G; Cost: 0.37
footprint SO-8_1
pins: 1 VIN, 2 VOUT, 3 VOUT, 4 ADJ, 5 NC, 6 VOUT, 7 VOUT, 8 NC

## PWREG-00062
designator U?, comment R2SX-053.3/H-TRAY
Module, Isolated DC-DC, 3.3V 2W 3kV, Recom Econoline; Part Number: PWREG-00062; Voltage Range In: 4.5 ~ 5.5V; Max Current: 606mA; Reg Type: Isolated Module; Fixed/Adj: Fixed; Voltage Range Out: 3.3V; Manufacturer: Recom; Manufacturer PN: R2SX-053.3/H-TRAY; Cost: 5.71
footprint RECOM_R2SX
pins: 1 -VIN, 2 +VIN, 4 NC hidden, 5 -VOUT, 7 +VOUT, 10 NC hidden

## PWREG-00063
designator U?, comment UC3843AN
IC, PWM Controller, UC3843, DIP-8; Part Number: PWREG-00063; Manufacturer: TI; Voltage Range In: 7.6V ~ 30V; Fixed/Adj: Adj; Reg Type: PWM Controller; Manufacturer PN: UC3843AN; Cost: 1.57
footprint DIP8
pins: 1 COMP, 2 FB, 3 CS, 4 RT/CT, 5 GND, 6 OUT, 7 VCC, 8 VREF

## PWREG-00064
designator U?, comment SN6505B
IC, 1A Transformer Driver, Push-Pull, Soft-Start Enabled; Part Number: PWREG-00064; Manufacturer: TI; Voltage Range In: 2.25 ~ 5.5V; Reg Type: Xfmr Driver; Fixed/Adj: Adj; Max Current: 1A; Manufacturer PN: SN6505B; Cost: 2.7
footprint sot-23-6
pins: 1 D1, 2 VCC, 3 D2, 4 GND, 5 EN, 6 CLK

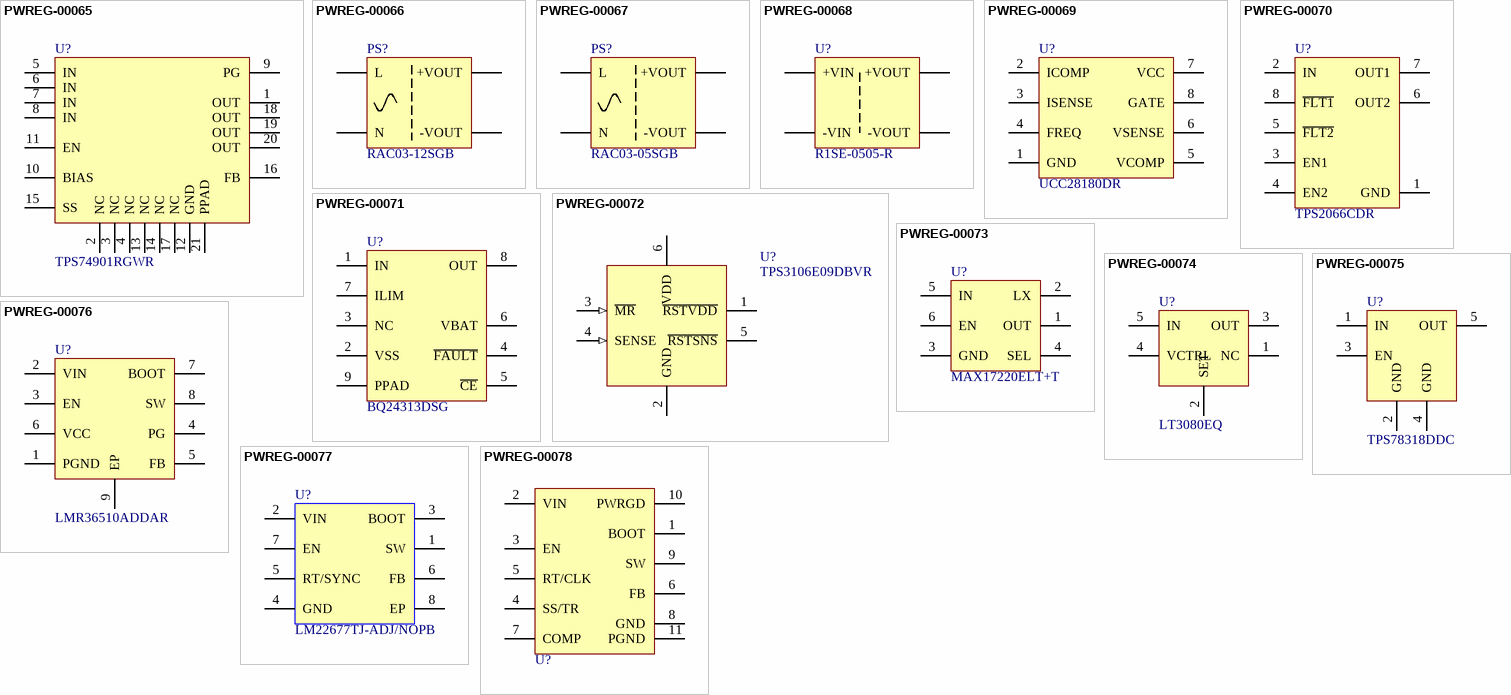
[diagram p2: symbols PWREG-00065 to PWREG-00078]

## PWREG-00065
designator U?, comment TPS74901RGWR
REG, Linear, Pos Adj 3A, En + Soft-Start, VQFN-20; Part Number: PWREG-00065; Manufacturer: TI; Voltage Range In: 1.1V ~ 5.5V; Voltage Range Out: 0.8V ~ 3.6V; Max Current: 3A; Reg Type: Linear; Fixed/Adj: Adj; Manufacturer PN: TPS74901RGWR; Cost: 3.71
footprint VQFN_20_EP
pins: 1 OUT, 2 NC, 3 NC, 4 NC, 5 IN, 6 IN, 7 IN, 8 IN, 9 PG, 10 BIAS, 11 EN, 12 GND, 13 NC, 14 NC, 15 SS, 16 FB, 17 NC, 18 OUT, 19 OUT, 20 OUT, 21 PPAD

## PWREG-00066
designator PS?, comment RAC03-12SGB
Module, AC-DC Isolated, 12V 250mA Output, 85~305VAC; Part Number: PWREG-00066; Manufacturer: Recom; Reg Type: Isolated Module; Fixed/Adj: Fixed; Voltage Range In: 85~305VAC; Voltage Range Out: 12V; Max Current: 250mA; Manufacturer PN: RAC03-12SGB; Cost: 8.66
footprint RAC03-xGB
pins: L, N, V+ +VOUT, V- -VOUT

## PWREG-00067
designator PS?, comment RAC03-05SGB
Module, AC-DC Isolated, 5V 600mA Output, 85~305VAC; Part Number: PWREG-00067; Manufacturer: Recom; Reg Type: Isolated Module; Fixed/Adj: Fixed; Voltage Range In: 85~305VAC; Voltage Range Out: 5V; Max Current: 600mA; Manufacturer PN: RAC03-05SGB; Cost: 8.66
footprint RAC03-xGB
pins: L, N, V+ +VOUT, V- -VOUT

## PWREG-00068
designator U?, comment R1SE-0505-R
Module, DC-DC Isolated, 5V 1W 1kV, Recom Econoline; Part Number: PWREG-00068; Voltage Range In: 4.5 ~ 5.5V; Max Current: 200mA; Reg Type: Isolated Module; Fixed/Adj: Fixed; Voltage Range Out: 5V; Manufacturer: Recom; Manufacturer PN: R1SE-0505-R; Cost: 3.12
footprint RECOM_R1SE
pins: +VIN, +VOUT, -VIN, -VOUT

## PWREG-00069
designator U?, comment UCC28180DR
IC, PFC Controller, CCM 250kHz, 8-SOIC; Part Number: PWREG-00069; Manufacturer: TI; Fixed/Adj: Adj; Reg Type: Controller; Manufacturer PN: UCC28180DR; Cost: 1.39
footprint SO-8_1
pins: 1 GND, 2 ICOMP, 3 ISENSE, 4 FREQ, 5 VCOMP, 6 VSENSE, 7 VCC, 8 GATE

## PWREG-00070
designator U?, comment TPS2066CDR
IC, Power Switch 1:2 N-Channel 1A, 8-SOIC, TPS2066CDR; Part Number: PWREG-00070; Manufacturer: TI; Voltage Range In: 2.7 ~ 5.5V; Voltage Range Out: 2.7 ~ 5.5V; Max Current: 1A; Reg Type: Power Switch; Manufacturer PN: TPS2066CDR; Cost: 1.01
footprint SO-8_1
pins: 1 GND, 2 IN, 3 EN1, 4 EN2, 5 ~{FLT2}, 6 OUT2, 7 OUT1, 8 ~{FLT1}

## PWREG-00071
designator U?, comment BQ24313DSG
IC, Overvoltage & Overcurrent Protection, Battery Front-End Protection; Part Number: PWREG-00071; Manufacturer: TI; Voltage Range In: 3.3 ~ 30V; Voltage Range Out: 5.5V; Max Current: 1.5A; Reg Type: Protection IC; Fixed/Adj: Fixed; Manufacturer PN: BQ24313DSG; Cost: 0.98
footprint WSON_8
pins: 1 IN, 2 VSS, 3 NC, 4 ~{FAULT}, 5 ~{CE}, 6 VBAT, 7 ILIM, 8 OUT, 9 PPAD

## PWREG-00072
designator U?, comment TPS3106E09DBVR
IC, Power On Reset (POR) Voltage Monitor, 0.9V; Part Number: PWREG-00072; Manufacturer: TI; Voltage Range In: 0.9 ~ 3.6V; Reg Type: POR; Manufacturer PN: TPS3106E09DBVR; Cost: 2.61
footprint sot-23-6
pins: 1 ~{RSTVDD} (oc), 2 GND (power), 3 ~{MR} (in), 4 SENSE (in), 5 ~{RSTSNS} (oc), 6 VDD (power)

## PWREG-00073
designator U?, comment MAX17220ELT+T
IC, nanoPower Synchronous Boost, 1.8V ~ 5.5V @ 225mA Output; Part Number: PWREG-00073; Manufacturer: Maxim Integrated; Voltage Range In: 0.4 ~ 5.5V; Voltage Range Out: 1.8 ~ 5.5V; Reg Type: SW Boost; Fixed/Adj: Adj; Max Current: 225mA; Manufacturer PN: MAX17220ELT+T; Cost: 1.82; Distributor Link: https://www.digikey.com/en/products/detail/maxim-integrated/MAX17220ELT-T/7667862
footprint DFN-6-2x2
pins: 1 OUT, 2 LX, 3 GND, 4 SEL, 5 IN, 6 EN

## PWREG-00074
designator U?, comment LT3080EQ
REG, Linear, Positive Adj 1.1A, LT3080, D2PAK-5; Part Number: PWREG-00074; Manufacturer: Analog Devices; Voltage Range In: 1.6 ~ 36V; Voltage Range Out: 0 ~ 36V; Max Current: 1.1A; Reg Type: Linear; Fixed/Adj: Adj; Manufacturer PN: LT3080EQ; Cost: 6.18; Distributor Link: https://www.digikey.com/en/products/detail/analog-devices-inc/LT3080EQ-TRPBF/2107732
footprint D2PAK-5
pins: 1 NC, 2 SET, 3 OUT, 4 VCTRL, 5 IN

## PWREG-00075
designator U?, comment TPS78318DDC
REG, Linear, 1.8V 150mA, Ultra-Low Quiescent Current (500nA); Part Number: PWREG-00075; Manufacturer: TI; Voltage Range In: 1.9 ~ 5.5V; Fixed/Adj: Fixed; Voltage Range Out: 1.8V; Max Current: 150mA; Reg Type: Linear; Manufacturer PN: TPS78318DDC; Cost: 0.97; Distributor Link: https://www.digikey.com/en/products/detail/texas-instruments/TPS78318DDCR/3877702
footprint sot-23-5
pins: 1 IN, 2 GND, 3 EN, 4 GND, 5 OUT

## PWREG-00076
designator U?, comment LMR36510ADDAR
REG, Synchronous Buck, 4.2V~65V, 1A, Simple Switcher; Part Number: PWREG-00076; Manufacturer: TI; Voltage Range In: 4.2 ~ 65V; Voltage Range Out: 1V ~ 28V; Reg Type: SW Buck; Fixed/Adj: Adj; Max Current: 1A; Manufacturer PN: LMR36510ADDAR; Cost: 2.35; Distributor Link: https://www.digikey.com/en/products/detail/texas-instruments/LMR36510ADDAR/11635685
footprint SO-8_PPAD
pins: 1 PGND, 2 VIN, 3 EN, 4 PG, 5 FB, 6 VCC, 7 BOOT, 8 SW, 9 EP

## PWREG-00077
designator U?, comment LM22677TJ-ADJ/NOPB
REG, Buck, 5A, 4.5~42V Input, SIMPLE SWITCHER, TO-263-7 Thin; Part Number: PWREG-00077; Manufacturer: TI; Voltage Range In: 4.2 ~ 42V; Voltage Range Out: 1.285 ~ 37V; Reg Type: SW Buck; Fixed/Adj: Adj; Max Current: 5A; Manufacturer PN: LM22677TJ-ADJ/NOPB; Cost: 6.8; Distributor Link: https://www.digikey.com/en/products/detail/texas-instruments/LM22677TJ-ADJ-NOPB/1951971
footprint TO-263-7-THIN
pins: 1 SW, 2 VIN, 3 BOOT, 4 GND, 5 RT/SYNC, 6 FB, 7 EN, 8 EP

## PWREG-00078
designator U?, comment TPS54561  (value not drawn)
REG, SW Buck Adj, 3A, 4.5-60V, 2.5MHz, TPS54361; Part Number: PWREG-00078; Manufacturer: TI; Manufacturer PN: TPS54361DPRR; Voltage Range Out: 0.8-58.8V; Frequency: 100kHz-2.5MHz; Reg Type: SW Buck; Voltage Range In: 4.5-60V; Max Current: 3A; Fixed/Adj: Adj
footprint WSON-10_0
pins: 1 BOOT, 2 VIN, 3 EN, 4 SS/TR, 5 RT/CLK, 6 FB, 7 COMP, 8 GND, 9 SW, 10 PWRGD, 11 PGND